# Altium schematic symbol library CD74HC4050.Schlib: 1 symbol
Pins are listed as number, name and electrical type; pins without a type are passive.

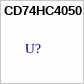
[diagram p0: symbol CD74HC4050]

## CD74HC4050
designator U?
2 alternate drawings of the same symbol